# Altium footprint library QFP80P1200X1200X120-44N.PcbLib: 2 footprints
Each footprint in its own frame and in the unit in brackets; x right, y up, seen from the top. Pads: shape width x height; smd on the part's side, far side on the other; paste and mask are expansions set on the pad; w line width, h text height; cw(c..) or ccw(c..) is an arc to the next point about the centre after c.
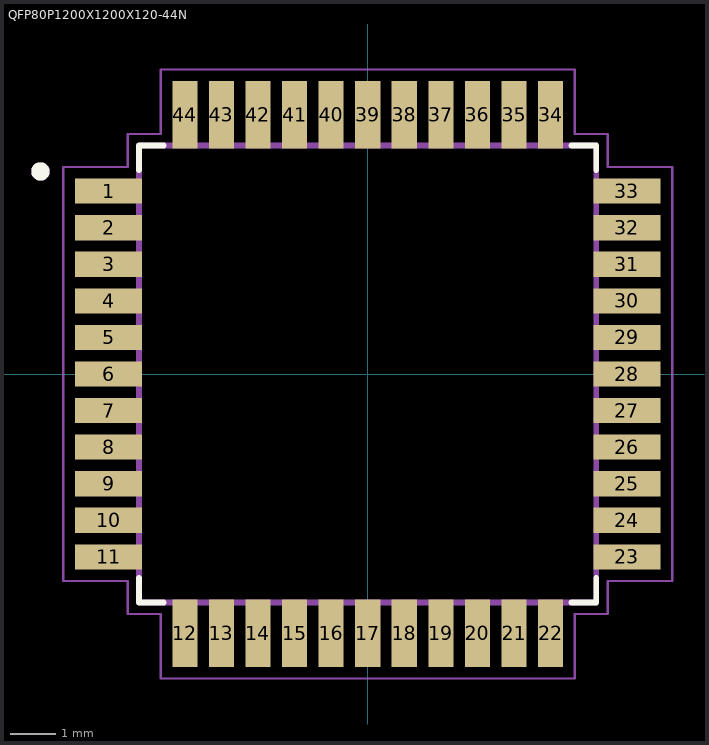
[diagram p0: the footprints below, top view; thin cyan lines are the x and y axes]

## PCBComponent_1 [mm]

## QFP80P1200X1200X120-44N [mm]
pads (44):
  rect 1.47x0.55 smd: 1(-5.67,4) 2(-5.67,3.2) 3(-5.67,2.4) 4(-5.67,1.6) 5(-5.67,0.8) 6(-5.67,0) 7(-5.67,-0.8) 8(-5.67,-1.6) 9(-5.67,-2.4) 10(-5.67,-3.2) 11(-5.67,-4) 23(5.67,-4) 24(5.67,-3.2) 25(5.67,-2.4) 26(5.67,-1.6) 27(5.67,-0.8) 28(5.67,0) 29(5.67,0.8) 30(5.67,1.6) 31(5.67,2.4) 32(5.67,3.2) 33(5.67,4)
  rect 0.55x1.47 smd: 12(-4,-5.67) 13(-3.2,-5.67) 14(-2.4,-5.67) 15(-1.6,-5.67) 16(-0.8,-5.67) 17(0,-5.67) 18(0.8,-5.67) 19(1.6,-5.67) 20(2.4,-5.67) 21(3.2,-5.67) 22(4,-5.67) 34(4,5.67) 35(3.2,5.67) 36(2.4,5.67) 37(1.6,5.67) 38(0.8,5.67) 39(0,5.67) 40(-0.8,5.67) 41(-1.6,5.67) 42(-2.4,5.67) 43(-3.2,5.67) 44(-4,5.67)
Top Overlay:
  circle w0.2: c-7.16,4.43 r0.1
  lines w0.127: -5,-4.46 -5,-5 -4.46,-5 ; -5,4.46 -5,5 -4.46,5 ; 4.46,-5 5,-5 5,-4.46 ; 4.46,5 5,5 5,4.46
Mechanical 13:
  circle w0.2: c-7.16,4.43 r0.1
  circle w0.2: c-7.16,4.43 r0.1
  lines w0.127: -5,-5 -5,5 ; -5,-5 5,-5 ; -5,-5 -5,5 ; -5,-5 5,-5 ; -5,5 5,5 ; -5,5 5,5 ; 5,-5 5,5 ; 5,-5 5,5
Mechanical 15:
  lines w0.05: -6.66,-4.53 -6.66,4.53 -5.25,4.53 -5.25,5.25 -4.53,5.25 -4.53,6.66 4.53,6.66 4.53,5.25 5.25,5.25 5.25,4.53 6.66,4.53 6.66,-4.53 5.25,-4.53 5.25,-5.25 4.53,-5.25 4.53,-6.66 -4.53,-6.66 -4.53,-5.25 -5.25,-5.25 -5.25,-4.53 -6.66,-4.53